# Altium schematic symbol library IC SPI.SchLib: 7 symbols
Pins are listed as number, name and electrical type; pins without a type are passive.

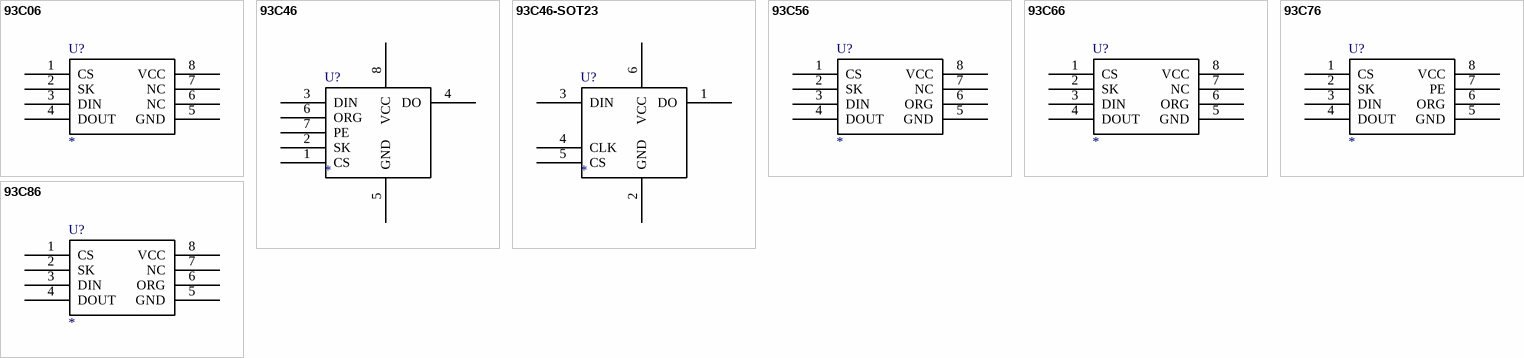
[diagram p0: symbols 93C06 to 93C86]

## 93C06
designator U?
MICROWIRE EEPROM
footprint SO8
pins: 1 CS, 2 SK, 3 DIN, 4 DOUT, 5 GND, 6 NC, 7 NC, 8 VCC

## 93C46
designator U?
MICROWIRE EEPROM
footprint SO8
pins: 1 CS, 2 SK, 3 DIN, 4 DO, 5 GND, 6 ORG, 7 PE, 8 VCC

## 93C46-SOT23
designator U?
MICROWIRE EEPROM
footprint SOT23-6
pins: 1 DO, 2 GND, 3 DIN, 4 CLK, 5 CS, 6 VCC

## 93C56
designator U?
MICROWIRE EEPROM
footprint SO8
pins: 1 CS, 2 SK, 3 DIN, 4 DOUT, 5 GND, 6 ORG, 7 NC, 8 VCC

## 93C66
designator U?
MICROWIRE EEPROM
footprint SO8
pins: 1 CS, 2 SK, 3 DIN, 4 DOUT, 5 GND, 6 ORG, 7 NC, 8 VCC

## 93C76
designator U?
MICROWIRE EEPROM
footprint SO8
pins: 1 CS, 2 SK, 3 DIN, 4 DOUT, 5 GND, 6 ORG, 7 PE, 8 VCC

## 93C86
designator U?
MICROWIRE EEPROM
footprint SO8
pins: 1 CS, 2 SK, 3 DIN, 4 DOUT, 5 GND, 6 ORG, 7 NC, 8 VCC